# EAGLE library part TPS61090 (library PowerICs)
DC-DC Boost Converter
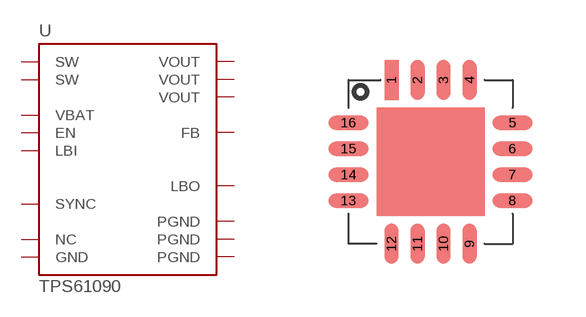
[diagram p3: symbol with the pads of PQFP16NL; footprint PQFP16NL]

Designator prefix U

## TPS61090PQFP  [PQFP16NL]
1  VOUT
2  NC
3  SW
4  SW
5  PGND
6  PGND
7  PGND
8  VBAT
9  LBI
10  SYNC
11  EN
12  LBO
13  GND
14  FB
15  VOUT
16  VOUT

## Footprint PQFP16NL (pad centres in mm)
Description: This footprint is untested.
smd 0.35 x 1: 1 -0.975,2.05; 2 -0.325,2.05; 3 0.325,2.05; 4 0.975,2.05; 9 0.975,-2.05; 10 0.325,-2.05; 11 -0.325,-2.05; 12 -0.975,-2.05
smd 1 x 0.35: 5 2.05,0.975; 6 2.05,0.325; 7 2.05,-0.325; 8 2.05,-0.975; 13 -2.05,-0.975; 14 -2.05,-0.325; 15 -2.05,0.325; 16 -2.05,0.975